# EAGLE library part MEC6-140-02-X-D-RAX (library mec6_140)
0.635mm RIGHT ANGLE EDGE CARD ASSEMBLY.
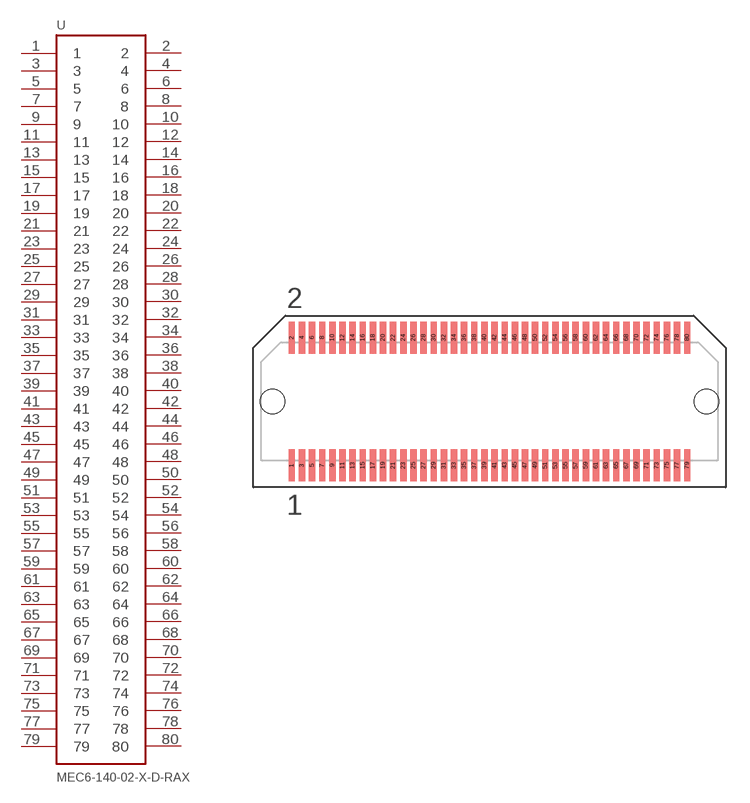
[diagram p0: symbol with the pads of MEC6-140-02-X-D-RAX; footprint MEC6-140-02-X-D-RAX]

Designator prefix -

## MEC6-140-02-X-D-RAX  [MEC6-140-02-X-D-RAX]
1  1
2  2
3  3
4  4
5  5
6  6
7  7
8  8
9  9
10  10
11  11
12  12
13  13
14  14
15  15
16  16
17  17
18  18
19  19
20  20
21  21
22  22
23  23
24  24
25  25
26  26
27  27
28  28
29  29
30  30
31  31
32  32
33  33
34  34
35  35
36  36
37  37
38  38
39  39
40  40
41  41
42  42
43  43
44  44
45  45
46  46
47  47
48  48
49  49
50  50
51  51
52  52
53  53
54  54
55  55
56  56
57  57
58  58
59  59
60  60
61  61
62  62
63  63
64  64
65  65
66  66
67  67
68  68
69  69
70  70
71  71
72  72
73  73
74  74
75  75
76  76
77  77
78  78
79  79
80  80

## Footprint MEC6-140-02-X-D-RAX (pad centres in mm)
0.635mm RIGHT ANGLE EDGE CARD ASSEMBLY.
smd 0.4 x 2: 1 -12.383,-4; 2 -12.383,4; 3 -11.748,-4; 4 -11.748,4; 5 -11.113,-4; 6 -11.113,4; 7 -10.477,-4; 8 -10.477,4; 9 -9.842,-4; 10 -9.842,4; 11 -9.207,-4; 12 -9.207,4; 13 -8.572,-4; 14 -8.572,4; 15 -7.938,-4; 16 -7.938,4; 17 -7.303,-4; 18 -7.303,4; 19 -6.668,-4; 20 -6.668,4; 21 -6.032,-4; 22 -6.032,4; 23 -5.397,-4; 24 -5.397,4; 25 -4.763,-4; 26 -4.763,4; 27 -4.128,-4; 28 -4.128,4; 29 -3.493,-4; 30 -3.493,4; 31 -2.857,-4; 32 -2.857,4; 33 -2.223,-4; 34 -2.223,4; 35 -1.587,-4; 36 -1.587,4; 37 -0.953,-4; 38 -0.953,4; 39 -0.318,-4; 40 -0.318,4; 41 0.318,-4; 42 0.318,4; 43 0.953,-4; 44 0.953,4; 45 1.587,-4; 46 1.587,4; 47 2.223,-4; 48 2.223,4; 49 2.857,-4; 50 2.857,4; 51 3.493,-4; 52 3.493,4; 53 4.128,-4; 54 4.128,4; 55 4.763,-4; 56 4.763,4; 57 5.397,-4; 58 5.397,4; 59 6.032,-4; 60 6.032,4; 61 6.668,-4; 62 6.668,4; 63 7.303,-4; 64 7.303,4; 65 7.938,-4; 66 7.938,4; 67 8.572,-4; 68 8.572,4; 69 9.207,-4; 70 9.207,4; 71 9.842,-4; 72 9.842,4; 73 10.477,-4; 74 10.477,4; 75 11.113,-4; 76 11.113,4; 77 11.748,-4; 78 11.748,4; 79 12.383,-4; 80 12.383,4
hole 1.55 at -13.585,0
hole 1.55 at 13.585,0